# Altium schematic symbol library SN65HVD230D.SchLib: 1 symbol
Pins are listed as number, name and electrical type; pins without a type are passive.

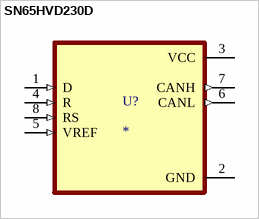
[diagram p0: symbol SN65HVD230D]

## SN65HVD230D
designator U?
MP: SN65HVD230D; MF: {'manufacturer': u'Texas Instruments'}; Package: None; Value: *; Price: None; Availability: Unavailable
footprint SOIC127P599X175-8N
pins: 1 D (in), 2 GND (power), 3 VCC (power), 4 R (in), 5 VREF (in), 6 CANL (out), 7 CANH (out), 8 RS (in)